# EAGLE library part THRU-HOLE2 (library dec-con)
Thru-Hole addition to double-sided edge connector.
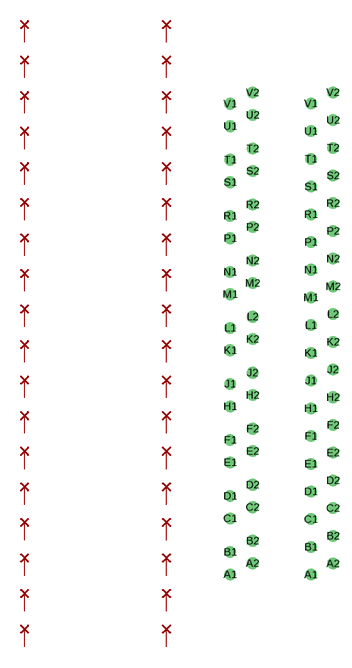
[diagram p3: symbol with the pads of THRU-HOLEB; footprints THRU-HOLEB, THRU-HOLEA]

Designator prefix -; gates K2=THRU-HOLE-PAD J2=THRU-HOLE-PAD H2=THRU-HOLE-PAD L2=THRU-HOLE-PAD M2=THRU-HOLE-PAD N2=THRU-HOLE-PAD P2=THRU-HOLE-PAD F2=THRU-HOLE-PAD E2=THRU-HOLE-PAD D2=THRU-HOLE-PAD C2=THRU-HOLE-PAD R2=THRU-HOLE-PAD S2=THRU-HOLE-PAD B2=THRU-HOLE-PAD A2=THRU-HOLE-PAD T2=THRU-HOLE-PAD U2=THRU-HOLE-PAD V2=THRU-HOLE-PAD A1=THRU-HOLE-PAD V1=THRU-HOLE-PAD U1=THRU-HOLE-PAD T1=THRU-HOLE-PAD S1=THRU-HOLE-PAD R1=THRU-HOLE-PAD P1=THRU-HOLE-PAD N1=THRU-HOLE-PAD M1=THRU-HOLE-PAD L1=THRU-HOLE-PAD K1=THRU-HOLE-PAD J1=THRU-HOLE-PAD H1=THRU-HOLE-PAD F1=THRU-HOLE-PAD E1=THRU-HOLE-PAD D1=THRU-HOLE-PAD C1=THRU-HOLE-PAD B1=THRU-HOLE-PAD

## THRU-HOLE2B  [THRU-HOLEB]
A1  A1:P$1  pas
A2  A2:P$1  pas
B1  B1:P$1  pas
B2  B2:P$1  pas
C1  C1:P$1  pas
C2  C2:P$1  pas
D1  D1:P$1  pas
D2  D2:P$1  pas
E1  E1:P$1  pas
E2  E2:P$1  pas
F1  F1:P$1  pas
F2  F2:P$1  pas
H1  H1:P$1  pas
H2  H2:P$1  pas
J1  J1:P$1  pas
J2  J2:P$1  pas
K1  K1:P$1  pas
K2  K2:P$1  pas
L1  L1:P$1  pas
L2  L2:P$1  pas
M1  M1:P$1  pas
M2  M2:P$1  pas
N1  N1:P$1  pas
N2  N2:P$1  pas
P1  P1:P$1  pas
P2  P2:P$1  pas
R1  R1:P$1  pas
R2  R2:P$1  pas
S1  S1:P$1  pas
S2  S2:P$1  pas
T1  T1:P$1  pas
T2  T2:P$1  pas
U1  U1:P$1  pas
U2  U2:P$1  pas
V1  V1:P$1  pas
V2  V2:P$1  pas

## THRU-HOLE2A  [THRU-HOLEA]
Pads as for THRU-HOLEB

## THRU-HOLE2W  [THRU-HOLE2]
Pads as for THRU-HOLEB

## THRU-HOLE2C  [THRU-HOLEC]
Pads as for THRU-HOLEB

## THRU-HOLE2  [THRU-HOLEB]
Pads as for THRU-HOLEB

## Footprint THRU-HOLEB (pad centres in mm)
Double-Sided DEC Edge Connector thru-holes on 0.05" grid
drill 0.813 pad 1.27: A1 17.78,3.81; A2 20.32,5.08; B1 17.78,6.35; B2 20.32,7.62; C1 17.78,10.16; C2 20.32,11.43; D1 17.78,12.7; D2 20.32,13.97; E1 17.78,16.51; E2 20.32,17.78; F1 17.78,19.05; F2 20.32,20.32; H1 17.78,22.86; H2 20.32,24.13; J1 17.78,25.4; J2 20.32,26.67; K1 17.78,29.21; K2 20.32,30.48; L1 17.78,31.75; L2 20.32,33.02; M1 17.78,35.56; M2 20.32,36.83; N1 17.78,38.1; N2 20.32,39.37; P1 17.78,41.91; P2 20.32,43.18; R1 17.78,44.45; R2 20.32,45.72; S1 17.78,48.26; S2 20.32,49.53; T1 17.78,50.8; T2 20.32,52.07; U1 17.78,54.61; U2 20.32,55.88; V1 17.78,57.15; V2 20.32,58.42

## Footprint THRU-HOLEA (pad centres in mm)
Double-Sided DEC Edge Connector thru-holes, .125" spacing
drill 0.813 pad 1.27: A1 17.78,3.81; A2 20.32,5.08; B1 17.78,6.985; B2 20.32,8.255; C1 17.78,10.16; C2 20.32,11.43; D1 17.78,13.335; D2 20.32,14.605; E1 17.78,16.51; E2 20.32,17.78; F1 17.78,19.685; F2 20.32,20.955; H1 17.78,22.86; H2 20.32,24.13; J1 17.78,26.035; J2 20.32,27.305; K1 17.78,29.21; K2 20.32,30.48; L1 17.78,32.385; L2 20.32,33.655; M1 17.78,35.56; M2 20.32,36.83; N1 17.78,38.735; N2 20.32,40.005; P1 17.78,41.91; P2 20.32,43.18; R1 17.78,45.085; R2 20.32,46.355; S1 17.78,48.26; S2 20.32,49.53; T1 17.78,51.435; T2 20.32,52.705; U1 17.78,54.61; U2 20.32,55.88; V1 17.78,57.785; V2 20.32,59.055

## Footprint THRU-HOLE2 (pad centres in mm)
Double-Sided DEC Edge Connector thru-holes, .25" spacing
drill 1.016 long: A1 28.575,9.525; A2 28.575,3.175; B1 25.4,12.7; B2 25.4,6.35; C1 22.225,9.525; C2 22.225,3.175; D1 19.05,12.7; D2 19.05,6.35; E1 15.875,9.525; E2 15.875,3.175; F1 12.7,12.7; F2 12.7,6.35; H1 9.525,9.525; H2 9.525,3.175; J1 6.35,12.7; J2 6.35,6.35; K1 3.175,9.525; K2 3.175,3.175; L1 0,12.7; L2 0,6.35; M1 -3.175,9.525; M2 -3.175,3.175; N1 -6.35,12.7; N2 -6.35,6.35; P1 -9.525,9.525; P2 -9.525,3.175; R1 -12.7,12.7; R2 -12.7,6.35; S1 -15.875,9.525; S2 -15.875,3.175; T1 -19.05,12.7; T2 -19.05,6.35; U1 -22.225,9.525; U2 -22.225,3.175; V1 -25.4,12.7; V2 -25.4,6.35

## Footprint THRU-HOLEC (pad centres in mm)
Double-Sided DEC Edge Connector thru-holes, .125" spacing
drill 0.813 pad 1.27: A1 17.78,3.81; A2 20.32,2.54; B1 17.78,6.985; B2 20.32,5.715; C1 17.78,10.16; C2 20.32,8.89; D1 17.78,13.335; D2 20.32,12.065; E1 17.78,16.51; E2 20.32,15.24; F1 17.78,19.685; F2 20.32,18.415; H1 17.78,22.86; H2 20.32,21.59; J1 17.78,26.035; J2 20.32,24.765; K1 17.78,29.21; K2 20.32,27.94; L1 17.78,32.385; L2 20.32,31.115; M1 17.78,35.56; M2 20.32,34.29; N1 17.78,38.735; N2 20.32,37.465; P1 17.78,41.91; P2 20.32,40.64; R1 17.78,45.085; R2 20.32,43.815; S1 17.78,48.26; S2 20.32,46.99; T1 17.78,51.435; T2 20.32,50.165; U1 17.78,54.61; U2 20.32,53.34; V1 17.78,57.785; V2 20.32,56.515